# Altium schematic symbol library UPS_Charger_v1.SchLib: 25 symbols
Pins are listed as number, name and electrical type; pins without a type are passive.

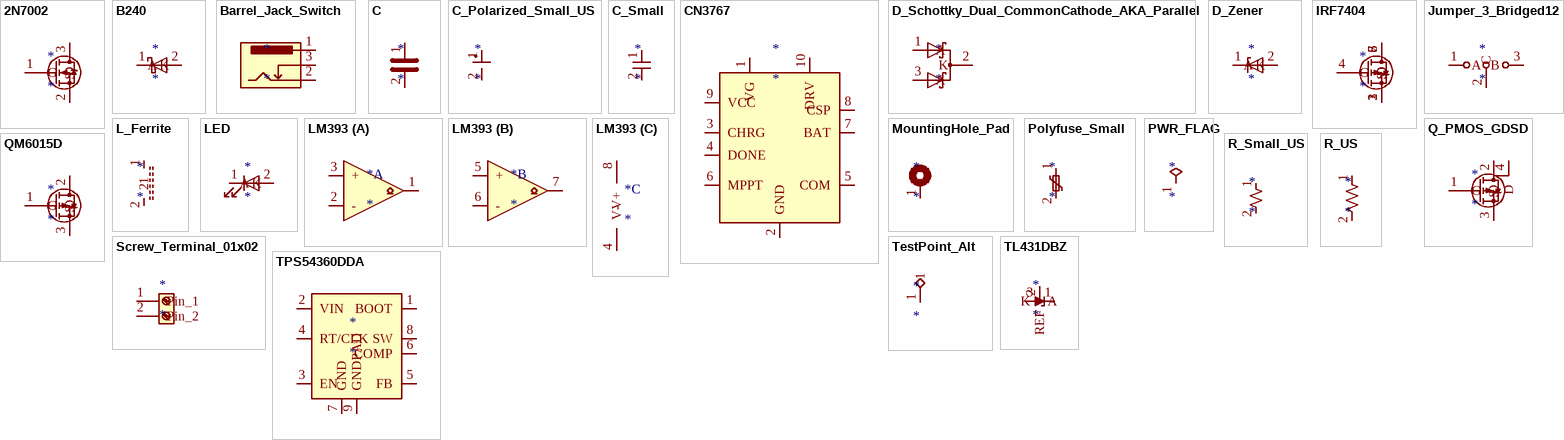
[diagram p0: symbols 2N7002 to TPS54360DDA]

## 2N7002
designator *
pins: 1 G, 2 S, 3 D

## B240
designator *
pins: 1 K, 2 A

## Barrel_Jack_Switch
designator *
pins: 1, 2, 3

## C
designator *
pins: 1, 2

## C_Polarized_Small_US
designator *
pins: 1, 2

## C_Small
designator *
pins: 1, 2

## CN3767
designator *
pins: 1 VG, 2 GND, 3 CHRG, 4 DONE, 5 COM, 6 MPPT, 7 BAT, 8 CSP, 9 VCC, 10 DRV

## D_Schottky_Dual_CommonCathode_AKA_Parallel
designator *
pins: 1 A, 2 K, 3 A

## D_Zener
designator *
pins: 1 K, 2 A

## IRF7404
designator *
pins: 1 S, 2 S, 3 S, 4 G, 5 D, 6 D, 7 D, 8 D

## Jumper_3_Bridged12
designator *
pins: 1 A, 2 C, 3 B

## L_Ferrite
designator *
pins: 1, 2

## LED
designator *
pins: 1 K, 2 A

## LM393
designator *
part A pins: 1, 2 -, 3 +
part B pins: 5 +, 6 -, 7
part C pins: 4 V-, 8 V+

## MountingHole_Pad
designator *
pins: 1

## Polyfuse_Small
designator *
pins: 1, 2

## PWR_FLAG
designator *  (graphical)
pins: 1

## Q_PMOS_GDSD
designator *
pins: 1 G, 2 D, 3 S, 4 D

## QM6015D
designator *
pins: 1 G, 2 D, 3 S

## R_Small_US
designator *
pins: 1, 2

## R_US
designator *
pins: 1, 2

## Screw_Terminal_01x02
designator *
pins: 1 Pin_1, 2 Pin_2

## TestPoint_Alt
designator *
pins: 1

## TL431DBZ
designator *
pins: 1 K, 2 REF, 3 A

## TPS54360DDA
designator *
pins: 1 BOOT, 2 VIN, 3 EN, 4 RT/CLK, 5 FB, 6 COMP, 7 GND, 8 SW, 9 GNDPAD